# Altium schematic symbol library CONBNC001.SchLib: 1 symbol
Pins are listed as number, name and electrical type; pins without a type are passive.

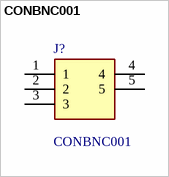
[diagram p0: symbol CONBNC001]

## CONBNC001
designator J?
Body Features: Body Material Brass | Body Plating Material Nickel | Configuration Features: Number of Coaxial Contacts 1 | Number of Positions 1 | Electrical Characteristics: Impedance 50 OHM | Mechanical Attachment: Connector Mounting Type Board Mount | RF Connector Coupling Mechanism Bayonet | Operation/Application: Operating Frequency 3 GHZ | Circuit Application Signal | Other: Dielectric Material Polytetrafluoroethylene (PTFE) | Product Type Features: RF Connector Style Jack | Connector & Contact Termin; Manufacturer_Name: TE Connectivity; Geometry.Height: 14.9mm; Mouser Part Number: 712-CONBNC001; Mouser Price/Stock: https://www.mouser.co.uk/ProductDetail/TE-Connectivity-Linx-Technologies/CONBNC001?qs=doiCPypUmgHczHAGaJs8Lg%3D%3D; Manufacturer_Part_Number: CONBNC001; Datasheet Link: https://www.te.com/commerce/DocumentDelivery/DDEController?Action=srchrtrv&DocNm=CONBNC001&DocType=Data%20Sheet&DocLang=English&PartCntxt=CONBNC001&DocFormat=pdf
footprint CONBNC001
pins: 1, 2, 3, 4, 5